# EAGLE library part CY7C64013 (library Cypress)
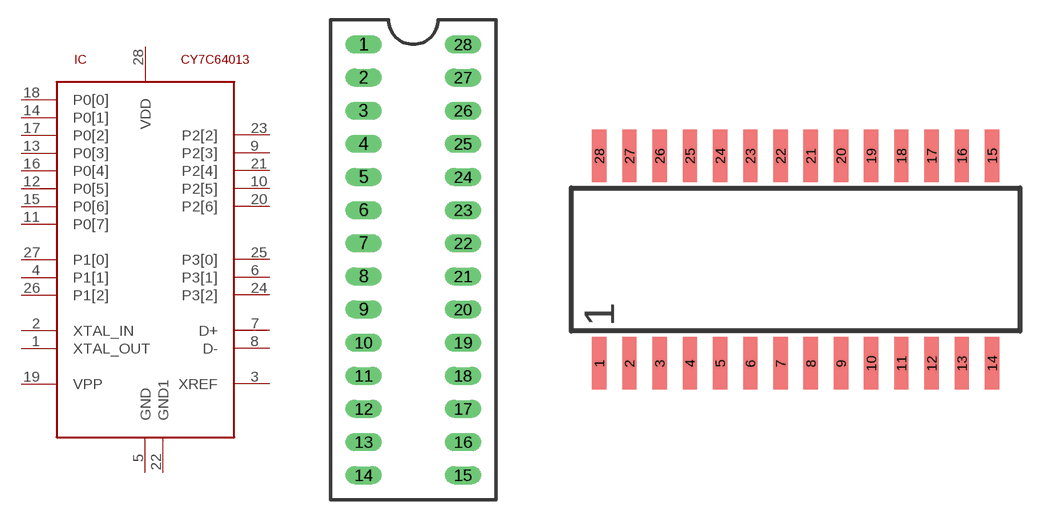
[diagram p0: symbol with the pads of DIP-28S; footprints DIP-28S, SOIC-28]

Designator prefix IC

## CY7C64013-PC  [DIP-28S]
1  XTAL_OUT  out
2  XTAL_IN  in
3  XREF  in
4  P1[1]
5  GND  pwr
6  P3[1]  in
7  D+
8  D-
9  P2[3]
10  P2[5]
11  P0[7]
12  P0[5]
13  P0[3]
14  P0[1]
15  P0[6]
16  P0[4]
17  P0[2]
18  P0[0]
19  VPP  in
20  P2[6]
21  P2[4]
22  GND1  pwr
23  P2[2]
24  P3[2]  in
25  P3[0]  in
26  P1[2]
27  P1[0]
28  VDD  pwr

## CY7C64013-SC  [SOIC-28]
1  XTAL_OUT  out
2  XTAL_IN  in
3  XREF  in
4  GND  pwr
5  P3[1]  in
6  D+
7  D-
8  P2[3]
9  P2[5]
10  P0[7]
11  P0[5]
12  P0[3]
13  P0[1]
14  P0[6]
15  P0[4]
16  P0[2]
17  P0[0]
18  VPP  in
19  P2[6]
20  P2[4]
21  P2[2]
22  GND1  pwr
23  P3[2]  in
24  P3[0]  in
25  P1[2]
26  P1[0]
27  P1[1]
28  VDD  pwr

## Footprint DIP-28S (pad centres in mm)
drill 0.889 long: 1 -3.81,16.51; 2 -3.81,13.97; 3 -3.81,11.43; 4 -3.81,8.89; 5 -3.81,6.35; 6 -3.81,3.81; 7 -3.81,1.27; 8 -3.81,-1.27; 9 -3.81,-3.81; 10 -3.81,-6.35; 11 -3.81,-8.89; 12 -3.81,-11.43; 13 -3.81,-13.97; 14 -3.81,-16.51; 15 3.81,-16.51; 16 3.81,-13.97; 17 3.81,-11.43; 18 3.81,-8.89; 19 3.81,-6.35; 20 3.81,-3.81; 21 3.81,-1.27; 22 3.81,1.27; 23 3.81,3.81; 24 3.81,6.35; 25 3.81,8.89; 26 3.81,11.43; 27 3.81,13.97; 28 3.81,16.51

## Footprint SOIC-28 (pad centres in mm)
smd 0.6 x 2.2: 1 -8.255,-4.362; 2 -6.985,-4.362; 3 -5.715,-4.362; 4 -4.445,-4.362; 5 -3.175,-4.362; 6 -1.905,-4.362; 7 -0.635,-4.362; 8 0.635,-4.362; 9 1.905,-4.362; 10 3.175,-4.362; 11 4.445,-4.362; 12 5.715,-4.362; 13 6.985,-4.362; 14 8.255,-4.362; 15 8.255,4.362; 16 6.985,4.362; 17 5.715,4.362; 18 4.445,4.362; 19 3.175,4.362; 20 1.905,4.362; 21 0.635,4.362; 22 -0.635,4.362; 23 -1.905,4.362; 24 -3.175,4.362; 25 -4.445,4.362; 26 -5.715,4.362; 27 -6.985,4.362; 28 -8.255,4.362